# Altium schematic symbol library Miscellaneous.SchLib: 12 symbols
Pins are listed as number, name and electrical type; pins without a type are passive.

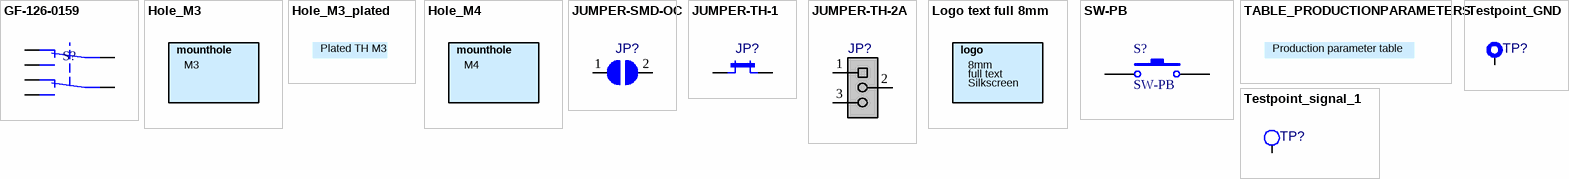
[diagram p0: symbols GF-126-0159 to Testpoint_signal_1]

## GF-126-0159
designator S?  (value not drawn)
2P2T vertical slide switch; Supplier 1: Mouser; Supplier Part Number 1: 629-GF1260159
footprint GF-126-0159
pins: 1, 2, 3, 4, 5, 6

## Hole_M3
designator *  (value not drawn)  (no BOM)
Mounting hole M3
footprint HOLE M3 NPTH (Hole 3mm diameter, non-plated)
text: mounthole; M3

## Hole_M3_plated
designator MISC?  (value not drawn)  (no BOM)
Mounting hole M3
footprint HOLE M3 PTH (Hole 3mm diameter, plated)
text: Plated TH M3

## Hole_M4
designator *  (value not drawn)  (no BOM)
Mounting hole M4
footprint HOLE M4 NPTH (Hole 4mm diameter, non-plated)
text: mounthole; M4

## JUMPER-SMD-OC
designator JP?, comment Jumper  (value not drawn)
SMD jumper Open/Closed
pins: 1 5, 2 6

## JUMPER-TH-1
designator JP?, comment Jumper  (value not drawn)
Through-hole jumper Open/Closed
footprint IDC2
pins: 1 5, 2 6

## JUMPER-TH-2A
designator JP?, comment Jumper  (value not drawn)
Through-hole jumper 2 way (1,2 connected)
footprint IDC3
pins: 1, 2, 3

## Logo text full 8mm
designator *  (value not drawn)  (no BOM)
Bekking Electronics Design logo in silkscreen
footprint LOGO TEXT FULL 8MM SILK
text: logo; 8mm; full text; Silkscreen

## SW-PB
designator S?
Switch; Supplier 1: Mouser; Supplier Part Number 1: 506-1571621-1
footprint SW_PB
pins: 1, 2

## TABLE_PRODUCTIONPARAMETERS
designator MISC?, comment Production parameters  (value not drawn)
footprint TABLE_PRODUCTIONPARAMETERS (Production paramter table)
text: Production parameter table

## Testpoint_GND
designator TP?  (value not drawn)  (no BOM)
Test Point
footprint TP1 (Testpoint SMD 1mm)
pins: 1

## Testpoint_signal_1
designator TP?  (value not drawn)  (no BOM)
Test Point
footprint TP1 (Testpoint SMD 1mm)
pins: 1